# Altium footprint library my_pcb_lib.PcbLib: 3 footprints
Each footprint in its own frame and in the unit in brackets; x right, y up, seen from the top. Pads: shape width x height; smd on the part's side, far side on the other; paste and mask are expansions set on the pad; w line width, h text height; cw(c..) or ccw(c..) is an arc to the next point about the centre after c.
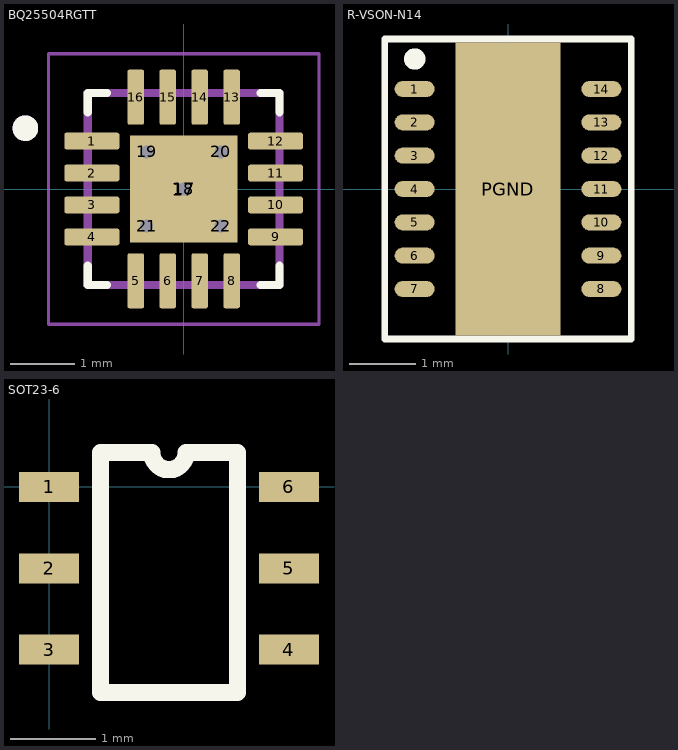
[diagram p0: the footprints below, top view; thin cyan lines are the x and y axes]

## BQ25504RGTT [mm]
pads (22):
  rrect25% 0.86x0.26 smd: 1(-1.435,0.75) 2(-1.435,0.25) 3(-1.435,-0.25) 4(-1.435,-0.75) 9(1.435,-0.75) 10(1.435,-0.25) 11(1.435,0.25) 12(1.435,0.75)
  rrect25% 0.26x0.86 smd: 5(-0.75,-1.435) 6(-0.25,-1.435) 7(0.25,-1.435) 8(0.75,-1.435) 13(0.75,1.435) 14(0.25,1.435) 15(-0.25,1.435) 16(-0.75,1.435)
  rect 1.68x1.68 smd paste-2: 17(0,0)
  round 0.4 hole 0.2 mask+0: 18(0,0) 19(-0.58,0.58) 20(0.58,0.58) 21(-0.58,-0.58) 22(0.58,-0.58)
Top Overlay:
  circle w0.2: c-2.475,0.95 r0.1
  lines w0.127: -1.5,-1.2 -1.5,-1.5 -1.2,-1.5 ; -1.5,1.2 -1.5,1.5 -1.2,1.5 ; 1.2,-1.5 1.5,-1.5 1.5,-1.2 ; 1.2,1.5 1.5,1.5 1.5,1.2
Top Paste:
  region: 0.53,-0.53 -0.53,-0.53 -0.53,0.53 0.53,0.53
Mechanical 13:
  circle w0.2: c-2.475,0.95 r0.1
  lines w0.127: -1.5,-1.5 -1.5,1.5 1.5,1.5 1.5,-1.5 -1.5,-1.5
Mechanical 15:
  lines w0.05: -2.115,-2.115 -2.115,2.115 2.115,2.115 2.115,-2.115 -2.115,-2.115
3D body "User Library-16VQFN3x3.STEP": height 0.97, standoff 0, extent -1.51,-1.51 1.51,1.51

## R-VSON-N14 [mm]
pads (15):
  oval 0.6x0.24 smd: 1(-1.4,1.5) 2(-1.4,1) 3(-1.4,0.5) 4(-1.4,0) 5(-1.4,-0.5) 6(-1.4,-1) 7(-1.4,-1.5) 8(1.4,-1.5) 9(1.4,-1) 10(1.4,-0.5) 11(1.4,0) 12(1.4,0.5) 13(1.4,1) 14(1.4,1.5)
  rect 1.58x4.4 smd: PGND(0,0)
Top Overlay:
  circle w0.2: c-1.4,1.95 r0.06
  lines w0.1: -1.85,-2.25 -1.85,2.25 1.85,2.25 1.85,-2.25 -1.85,-2.25

## SOT23-6 [mm]
pads (6):
  rect 0.7x0.35 smd: 1(0,0) 2(0,-0.95) 3(0,-1.9) 4(2.8,-1.9) 5(2.8,-0.95) 6(2.8,0)
Top Overlay:
  lines w0.2: 0.6,-2.4 0.8,-2.4 2,-2.4 2.2,-2.4 2.2,0.4 1.6,0.4 cw(c1.4,0.4) 1.2,0.4 0.6,0.4 0.6,-2.4